# EAGLE library part FXMAR2102 (library SparkFun-IC-Comms)
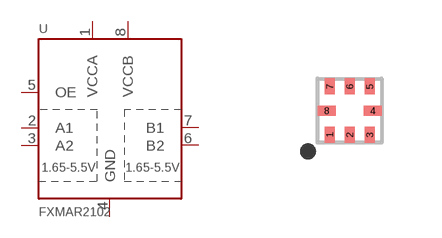
[diagram p20: symbol with the pads of UFQFN-8; footprint UFQFN-8]

Designator prefix U

## FXMAR2102  [UFQFN-8]
1  VCCA
2  A1
3  A2
4  GND
5  OE
6  B2
7  B1
8  VCCB

## Footprint UFQFN-8 (pad centres in mm)
smd 0.25 x 0.4: 1 -0.5,-0.605; 2 0,-0.605; 3 0.5,-0.605; 5 0.5,0.605; 6 0,0.605; 7 -0.5,0.605
smd 0.45 x 0.25: 4 0.575,0; 8 -0.575,0